# EAGLE library part PDI (library rocket)
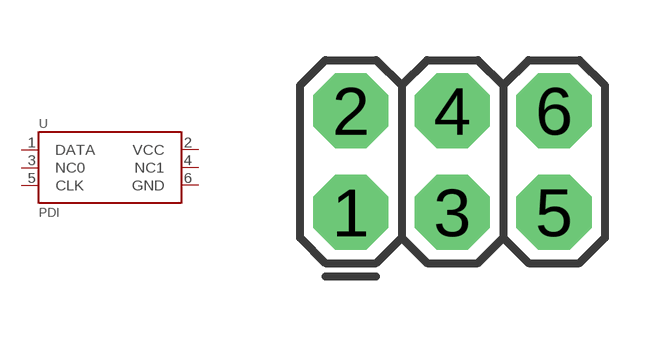
[diagram p9: symbol with the pads of 2X3; footprint 2X3]

Designator prefix -

## PDI  [2X3]
1  DATA
2  VCC
3  NC0
4  NC1
5  CLK
6  GND

## Footprint 2X3 (pad centres in mm)
drill 1.016 pad 1.88 octagon: 1 -2.54,-1.27; 2 -2.54,1.27; 3 0,-1.27; 4 0,1.27; 5 2.54,-1.27; 6 2.54,1.27